# Altium footprint library Conn_JST_B2B-PH-SM4-TB_LF_SN_eec_0.PcbLib: 1 footprints
Each footprint in its own frame and in the unit in brackets; x right, y up, seen from the top. Pads: shape width x height; smd on the part's side, far side on the other; paste and mask are expansions set on the pad; w line width, h text height; cw(c..) or ccw(c..) is an arc to the next point about the centre after c.
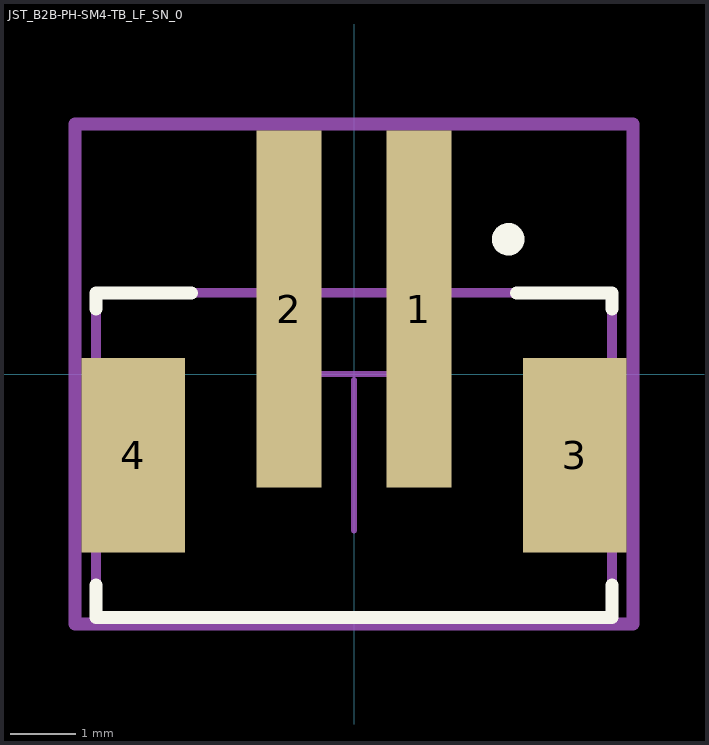
[diagram p0: the footprint, top view; thin cyan lines are the x and y axes]

## JST_B2B-PH-SM4-TB_LF_SN_0 [mm]
pads (4):
  rect 1x5.5 smd paste+0 mask+0: 1(1,1) 2(-1,1)
  rect 1.6x3 smd paste+0 mask+0: 3(3.4,-1.25) 4(-3.4,-1.25)
Top Overlay:
  circle w0.25: c2.375,2.075 r0.125
  lines w0.2: -3.975,-3.25 -3.975,-3.75 3.975,-3.75 3.975,-3.25 ; -3.975,1 -3.975,1.25 -2.5,1.25 ; 2.5,1.25 3.975,1.25 3.975,1
Mechanical 10:
  lines w0.2: -4.3,-3.85 4.3,-3.85 4.3,3.85 -4.3,3.85 -4.3,-3.85
  text ".Designator" at 0,0 h1
Mechanical 12:
  lines w0.15: -3.975,-3.75 3.975,-3.75 3.975,1.25 -3.975,1.25 -3.975,-3.75
Mechanical 15:
  lines w0.1: -1.155,0 1.155,0 ; 0,-2.405 0,-0.095
  lines w0.2: -4.3,-3.85 4.3,-3.85 4.3,3.85 -4.3,3.85 -4.3,-3.85
3D body "3dmodel.step": height 0.25, standoff 0, extent -4.3,-3.85 4.3,3.85